# Altium schematic symbol library WL-OCPT.SchLib: 88 symbols (part 2 of 2)
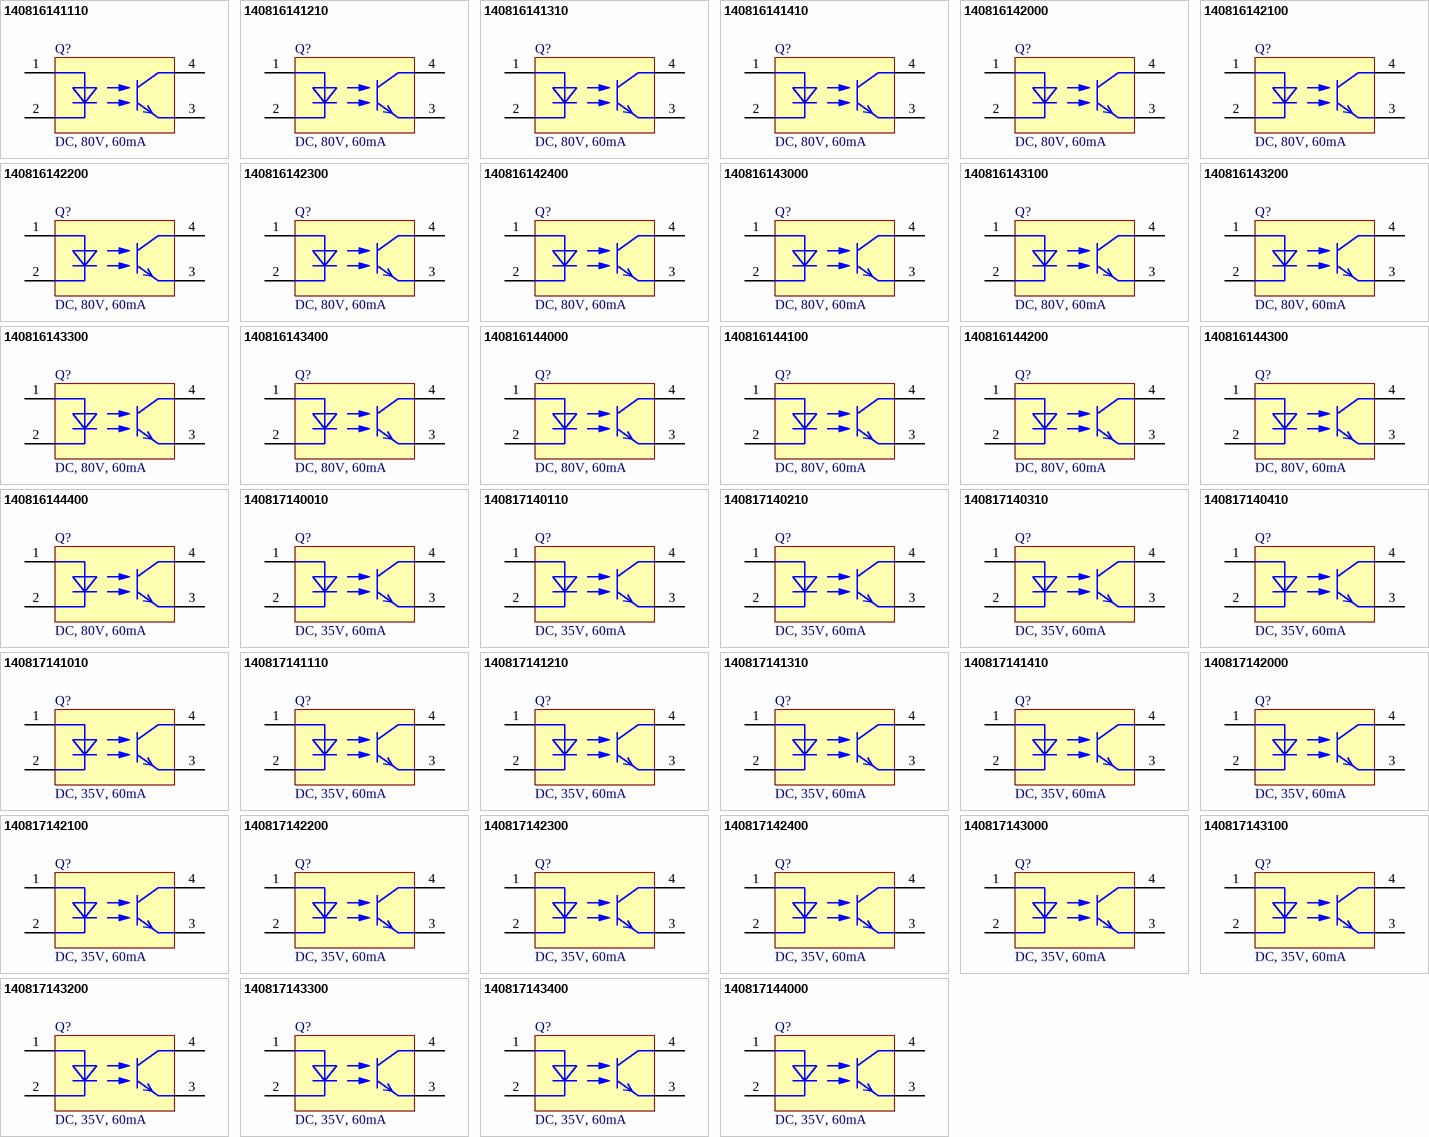
[diagram p3: symbols 140816141110 to 140817144000]

## 140816143300
designator Q?, comment DC, 80V, 60mA
WL-OCPT Optocoupler Phototransistor, DIP4_SL-Type, 1 Channel, DC, 80V, 60mA; Manufacturer Part Number: 140816143300; Manufacturer: Wurth Elektronik; Current Transfer Ratio Max: 400%; Current Transfer Ratio Min: 200%; Isolation Voltage: 5000Vrms; Number of Channels: 1; Category: Optocoupler Phototransistor; Match Code: WL-OCPT; ComponentLink1Description: Website Link; ComponentLink1URL: https://www.we-online.com/redexpert/article/140816143300?ad; ComponentLink2Description: Datasheet Link; ComponentLink2URL: https://www.we-online.com/redexpert/spec/140816143300?ad; Mount: Surface Mount; Min Operating Temperature: -55°C; Max Operating Temperature: 110°C; Packaging: Tape and Reel; Case/Size Code: DIP4_SL-Type; Length: 10.15mm; Width: 4.58mm; Height: 3.6mm; Collector Emitter Voltage: 80V; Forward Current: 60mA; Input: DC
footprint WL-OCPT_DIP4_SL-Type
pins: 1 Anode, 2 Cathode, 3 Emitter, 4 Collector

## 140816143400
designator Q?, comment DC, 80V, 60mA
WL-OCPT Optocoupler Phototransistor, DIP4_SL-Type, 1 Channel, DC, 80V, 60mA; Manufacturer Part Number: 140816143400; Manufacturer: Wurth Elektronik; Current Transfer Ratio Max: 600%; Current Transfer Ratio Min: 300%; Isolation Voltage: 5000Vrms; Number of Channels: 1; Category: Optocoupler Phototransistor; Match Code: WL-OCPT; ComponentLink1Description: Website Link; ComponentLink1URL: https://www.we-online.com/redexpert/article/140816143400?ad; ComponentLink2Description: Datasheet Link; ComponentLink2URL: https://www.we-online.com/redexpert/spec/140816143400?ad; Mount: Surface Mount; Min Operating Temperature: -55°C; Max Operating Temperature: 110°C; Packaging: Tape and Reel; Case/Size Code: DIP4_SL-Type; Length: 10.15mm; Width: 4.58mm; Height: 3.6mm; Collector Emitter Voltage: 80V; Forward Current: 60mA; Input: DC
footprint WL-OCPT_DIP4_SL-Type
pins: 1 Anode, 2 Cathode, 3 Emitter, 4 Collector

## 140816144000
designator Q?, comment DC, 80V, 60mA
WL-OCPT Optocoupler Phototransistor, DIP4_SLM-Type, 1 Channel, DC, 80V, 60mA; Manufacturer Part Number: 140816144000; Manufacturer: Wurth Elektronik; Current Transfer Ratio Max: 600%; Current Transfer Ratio Min: 50%; Isolation Voltage: 5000Vrms; Number of Channels: 1; Category: Optocoupler Phototransistor; Match Code: WL-OCPT; ComponentLink1Description: Website Link; ComponentLink1URL: https://www.we-online.com/redexpert/article/140816144000?ad; ComponentLink2Description: Datasheet Link; ComponentLink2URL: https://www.we-online.com/redexpert/spec/140816144000?ad; Mount: Surface Mount; Min Operating Temperature: -55°C; Max Operating Temperature: 110°C; Packaging: Tape and Reel; Case/Size Code: DIP4_SLM-Type; Length: 11.8mm; Width: 4.58mm; Height: 3.75mm; Collector Emitter Voltage: 80V; Forward Current: 60mA; Input: DC
footprint WL-OCPT_DIP4_SLM-Type
pins: 1 Anode, 2 Cathode, 3 Emitter, 4 Collector

## 140816144100
designator Q?, comment DC, 80V, 60mA
WL-OCPT Optocoupler Phototransistor, DIP4_SLM-Type, 1 Channel, DC, 80V, 60mA; Manufacturer Part Number: 140816144100; Manufacturer: Wurth Elektronik; Current Transfer Ratio Max: 160%; Current Transfer Ratio Min: 80%; Isolation Voltage: 5000Vrms; Number of Channels: 1; Category: Optocoupler Phototransistor; Match Code: WL-OCPT; ComponentLink1Description: Website Link; ComponentLink1URL: https://www.we-online.com/redexpert/article/140816144100?ad; ComponentLink2Description: Datasheet Link; ComponentLink2URL: https://www.we-online.com/redexpert/spec/140816144100?ad; Mount: Surface Mount; Min Operating Temperature: -55°C; Max Operating Temperature: 110°C; Packaging: Tape and Reel; Case/Size Code: DIP4_SLM-Type; Length: 11.8mm; Width: 4.58mm; Height: 3.75mm; Collector Emitter Voltage: 80V; Forward Current: 60mA; Input: DC
footprint WL-OCPT_DIP4_SLM-Type
pins: 1 Anode, 2 Cathode, 3 Emitter, 4 Collector

## 140816144200
designator Q?, comment DC, 80V, 60mA
WL-OCPT Optocoupler Phototransistor, DIP4_SLM-Type, 1 Channel, DC, 80V, 60mA; Manufacturer Part Number: 140816144200; Manufacturer: Wurth Elektronik; Current Transfer Ratio Max: 260%; Current Transfer Ratio Min: 130%; Isolation Voltage: 5000Vrms; Number of Channels: 1; Category: Optocoupler Phototransistor; Match Code: WL-OCPT; ComponentLink1Description: Website Link; ComponentLink1URL: https://www.we-online.com/redexpert/article/140816144200?ad; ComponentLink2Description: Datasheet Link; ComponentLink2URL: https://www.we-online.com/redexpert/spec/140816144200?ad; Mount: Surface Mount; Min Operating Temperature: -55°C; Max Operating Temperature: 110°C; Packaging: Tape and Reel; Case/Size Code: DIP4_SLM-Type; Length: 11.8mm; Width: 4.58mm; Height: 3.75mm; Collector Emitter Voltage: 80V; Forward Current: 60mA; Input: DC
footprint WL-OCPT_DIP4_SLM-Type
pins: 1 Anode, 2 Cathode, 3 Emitter, 4 Collector

## 140816144300
designator Q?, comment DC, 80V, 60mA
WL-OCPT Optocoupler Phototransistor, DIP4_SLM-Type, 1 Channel, DC, 80V, 60mA; Manufacturer Part Number: 140816144300; Manufacturer: Wurth Elektronik; Current Transfer Ratio Max: 400%; Current Transfer Ratio Min: 200%; Isolation Voltage: 5000Vrms; Number of Channels: 1; Category: Optocoupler Phototransistor; Match Code: WL-OCPT; ComponentLink1Description: Website Link; ComponentLink1URL: https://www.we-online.com/redexpert/article/140816144300?ad; ComponentLink2Description: Datasheet Link; ComponentLink2URL: https://www.we-online.com/redexpert/spec/140816144300?ad; Mount: Surface Mount; Min Operating Temperature: -55°C; Max Operating Temperature: 110°C; Packaging: Tape and Reel; Case/Size Code: DIP4_SLM-Type; Length: 11.8mm; Width: 4.58mm; Height: 3.75mm; Collector Emitter Voltage: 80V; Forward Current: 60mA; Input: DC
footprint WL-OCPT_DIP4_SLM-Type
pins: 1 Anode, 2 Cathode, 3 Emitter, 4 Collector

## 140816144400
designator Q?, comment DC, 80V, 60mA
WL-OCPT Optocoupler Phototransistor, DIP4_SLM-Type, 1 Channel, DC, 80V, 60mA; Manufacturer Part Number: 140816144400; Manufacturer: Wurth Elektronik; Current Transfer Ratio Max: 600%; Current Transfer Ratio Min: 300%; Isolation Voltage: 5000Vrms; Number of Channels: 1; Category: Optocoupler Phototransistor; Match Code: WL-OCPT; ComponentLink1Description: Website Link; ComponentLink1URL: https://www.we-online.com/redexpert/article/140816144400?ad; ComponentLink2Description: Datasheet Link; ComponentLink2URL: https://www.we-online.com/redexpert/spec/140816144400?ad; Mount: Surface Mount; Min Operating Temperature: -55°C; Max Operating Temperature: 110°C; Packaging: Tape and Reel; Case/Size Code: DIP4_SLM-Type; Length: 11.8mm; Width: 4.58mm; Height: 3.75mm; Collector Emitter Voltage: 80V; Forward Current: 60mA; Input: DC
footprint WL-OCPT_DIP4_SLM-Type
pins: 1 Anode, 2 Cathode, 3 Emitter, 4 Collector

## 140817140010
designator Q?, comment DC, 35V, 60mA
WL-OCPT Optocoupler Phototransistor, DIP4_Standard, 1 Channel, DC, 35V, 60mA; Manufacturer Part Number: 140817140010; Manufacturer: Wurth Elektronik; Current Transfer Ratio Max: 600%; Current Transfer Ratio Min: 50%; Isolation Voltage: 5000Vrms; Number of Channels: 1; Category: Optocoupler Phototransistor; Match Code: WL-OCPT; ComponentLink1Description: Website Link; ComponentLink1URL: https://www.we-online.com/redexpert/article/140817140010?ad; ComponentLink2Description: Datasheet Link; ComponentLink2URL: https://www.we-online.com/redexpert/spec/140817140010?ad; Mount: Through Hole; Min Operating Temperature: -55°C; Max Operating Temperature: 110°C; Packaging: Tube; Case/Size Code: DIP4_Standard; Length: 9.5mm; Width: 4.58mm; Height: 4.5mm; Collector Emitter Voltage: 35V; Forward Current: 60mA; Input: DC
footprint WL-OCPT_DIP4_Standard
pins: 1 Anode, 2 Cathode, 3 Emitter, 4 Collector

## 140817140110
designator Q?, comment DC, 35V, 60mA
WL-OCPT Optocoupler Phototransistor, DIP4_Standard, 1 Channel, DC, 35V, 60mA; Manufacturer Part Number: 140817140110; Manufacturer: Wurth Elektronik; Current Transfer Ratio Max: 160%; Current Transfer Ratio Min: 80%; Isolation Voltage: 5000Vrms; Number of Channels: 1; Category: Optocoupler Phototransistor; Match Code: WL-OCPT; ComponentLink1Description: Website Link; ComponentLink1URL: https://www.we-online.com/redexpert/article/140817140110?ad; ComponentLink2Description: Datasheet Link; ComponentLink2URL: https://www.we-online.com/redexpert/spec/140817140110?ad; Mount: Through Hole; Min Operating Temperature: -55°C; Max Operating Temperature: 110°C; Packaging: Tube; Case/Size Code: DIP4_Standard; Length: 9.5mm; Width: 4.58mm; Height: 4.5mm; Collector Emitter Voltage: 35V; Forward Current: 60mA; Input: DC
footprint WL-OCPT_DIP4_Standard
pins: 1 Anode, 2 Cathode, 3 Emitter, 4 Collector

## 140817140210
designator Q?, comment DC, 35V, 60mA
WL-OCPT Optocoupler Phototransistor, DIP4_Standard, 1 Channel, DC, 35V, 60mA; Manufacturer Part Number: 140817140210; Manufacturer: Wurth Elektronik; Current Transfer Ratio Max: 260%; Current Transfer Ratio Min: 130%; Isolation Voltage: 5000Vrms; Number of Channels: 1; Category: Optocoupler Phototransistor; Match Code: WL-OCPT; ComponentLink1Description: Website Link; ComponentLink1URL: https://www.we-online.com/redexpert/article/140817140210?ad; ComponentLink2Description: Datasheet Link; ComponentLink2URL: https://www.we-online.com/redexpert/spec/140817140210?ad; Mount: Through Hole; Min Operating Temperature: -55°C; Max Operating Temperature: 110°C; Packaging: Tube; Case/Size Code: DIP4_Standard; Length: 9.5mm; Width: 4.58mm; Height: 4.5mm; Collector Emitter Voltage: 35V; Forward Current: 60mA; Input: DC
footprint WL-OCPT_DIP4_Standard
pins: 1 Anode, 2 Cathode, 3 Emitter, 4 Collector

## 140817140310
designator Q?, comment DC, 35V, 60mA
WL-OCPT Optocoupler Phototransistor, DIP4_Standard, 1 Channel, DC, 35V, 60mA; Manufacturer Part Number: 140817140310; Manufacturer: Wurth Elektronik; Current Transfer Ratio Max: 400%; Current Transfer Ratio Min: 200%; Isolation Voltage: 5000Vrms; Number of Channels: 1; Category: Optocoupler Phototransistor; Match Code: WL-OCPT; ComponentLink1Description: Website Link; ComponentLink1URL: https://www.we-online.com/redexpert/article/140817140310?ad; ComponentLink2Description: Datasheet Link; ComponentLink2URL: https://www.we-online.com/redexpert/spec/140817140310?ad; Mount: Through Hole; Min Operating Temperature: -55°C; Max Operating Temperature: 110°C; Packaging: Tube; Case/Size Code: DIP4_Standard; Length: 9.5mm; Width: 4.58mm; Height: 4.5mm; Collector Emitter Voltage: 35V; Forward Current: 60mA; Input: DC
footprint WL-OCPT_DIP4_Standard
pins: 1 Anode, 2 Cathode, 3 Emitter, 4 Collector

## 140817140410
designator Q?, comment DC, 35V, 60mA
WL-OCPT Optocoupler Phototransistor, DIP4_Standard, 1 Channel, DC, 35V, 60mA; Manufacturer Part Number: 140817140410; Manufacturer: Wurth Elektronik; Current Transfer Ratio Max: 600%; Current Transfer Ratio Min: 300%; Isolation Voltage: 5000Vrms; Number of Channels: 1; Category: Optocoupler Phototransistor; Match Code: WL-OCPT; ComponentLink1Description: Website Link; ComponentLink1URL: https://www.we-online.com/redexpert/article/140817140410?ad; ComponentLink2Description: Datasheet Link; ComponentLink2URL: https://www.we-online.com/redexpert/spec/140817140410?ad; Mount: Through Hole; Min Operating Temperature: -55°C; Max Operating Temperature: 110°C; Packaging: Tube; Case/Size Code: DIP4_Standard; Length: 9.5mm; Width: 4.58mm; Height: 4.5mm; Collector Emitter Voltage: 35V; Forward Current: 60mA; Input: DC
footprint WL-OCPT_DIP4_Standard
pins: 1 Anode, 2 Cathode, 3 Emitter, 4 Collector

## 140817141010
designator Q?, comment DC, 35V, 60mA
WL-OCPT Optocoupler Phototransistor, DIP4_M-Type, 1 Channel, DC, 35V, 60mA; Manufacturer Part Number: 140817141010; Manufacturer: Wurth Elektronik; Current Transfer Ratio Max: 600%; Current Transfer Ratio Min: 50%; Isolation Voltage: 5000Vrms; Number of Channels: 1; Category: Optocoupler Phototransistor; Match Code: WL-OCPT; ComponentLink1Description: Website Link; ComponentLink1URL: https://www.we-online.com/redexpert/article/140817141010?ad; ComponentLink2Description: Datasheet Link; ComponentLink2URL: https://www.we-online.com/redexpert/spec/140817141010?ad; Mount: Through Hole; Min Operating Temperature: -55°C; Max Operating Temperature: 110°C; Packaging: Tube; Case/Size Code: DIP4_M-Type; Length: 10.16mm; Width: 4.58mm; Height: 4.58mm; Collector Emitter Voltage: 35V; Forward Current: 60mA; Input: DC
footprint WL-OCPT_DIP4_M-Type
pins: 1 Anode, 2 Cathode, 3 Emitter, 4 Collector

## 140817141110
designator Q?, comment DC, 35V, 60mA
WL-OCPT Optocoupler Phototransistor, DIP4_M-Type, 1 Channel, DC, 35V, 60mA; Manufacturer Part Number: 140817141110; Manufacturer: Wurth Elektronik; Current Transfer Ratio Max: 160%; Current Transfer Ratio Min: 80%; Isolation Voltage: 5000Vrms; Number of Channels: 1; Category: Optocoupler Phototransistor; Match Code: WL-OCPT; ComponentLink1Description: Website Link; ComponentLink1URL: https://www.we-online.com/redexpert/article/140817141110?ad; ComponentLink2Description: Datasheet Link; ComponentLink2URL: https://www.we-online.com/redexpert/spec/140817141110?ad; Mount: Through Hole; Min Operating Temperature: -55°C; Max Operating Temperature: 110°C; Packaging: Tube; Case/Size Code: DIP4_M-Type; Length: 10.16mm; Width: 4.58mm; Height: 4.58mm; Collector Emitter Voltage: 35V; Forward Current: 60mA; Input: DC
footprint WL-OCPT_DIP4_M-Type
pins: 1 Anode, 2 Cathode, 3 Emitter, 4 Collector

## 140817141210
designator Q?, comment DC, 35V, 60mA
WL-OCPT Optocoupler Phototransistor, DIP4_M-Type, 1 Channel, DC, 35V, 60mA; Manufacturer Part Number: 140817141210; Manufacturer: Wurth Elektronik; Current Transfer Ratio Max: 260%; Current Transfer Ratio Min: 130%; Isolation Voltage: 5000Vrms; Number of Channels: 1; Category: Optocoupler Phototransistor; Match Code: WL-OCPT; ComponentLink1Description: Website Link; ComponentLink1URL: https://www.we-online.com/redexpert/article/140817141210?ad; ComponentLink2Description: Datasheet Link; ComponentLink2URL: https://www.we-online.com/redexpert/spec/140817141210?ad; Mount: Through Hole; Min Operating Temperature: -55°C; Max Operating Temperature: 110°C; Packaging: Tube; Case/Size Code: DIP4_M-Type; Length: 10.16mm; Width: 4.58mm; Height: 4.58mm; Collector Emitter Voltage: 35V; Forward Current: 60mA; Input: DC
footprint WL-OCPT_DIP4_M-Type
pins: 1 Anode, 2 Cathode, 3 Emitter, 4 Collector

## 140817141310
designator Q?, comment DC, 35V, 60mA
WL-OCPT Optocoupler Phototransistor, DIP4_M-Type, 1 Channel, DC, 35V, 60mA; Manufacturer Part Number: 140817141310; Manufacturer: Wurth Elektronik; Current Transfer Ratio Max: 400%; Current Transfer Ratio Min: 200%; Isolation Voltage: 5000Vrms; Number of Channels: 1; Category: Optocoupler Phototransistor; Match Code: WL-OCPT; ComponentLink1Description: Website Link; ComponentLink1URL: https://www.we-online.com/redexpert/article/140817141310?ad; ComponentLink2Description: Datasheet Link; ComponentLink2URL: https://www.we-online.com/redexpert/spec/140817141310?ad; Mount: Through Hole; Min Operating Temperature: -55°C; Max Operating Temperature: 110°C; Packaging: Tube; Case/Size Code: DIP4_M-Type; Length: 10.16mm; Width: 4.58mm; Height: 4.58mm; Collector Emitter Voltage: 35V; Forward Current: 60mA; Input: DC
footprint WL-OCPT_DIP4_M-Type
pins: 1 Anode, 2 Cathode, 3 Emitter, 4 Collector

## 140817141410
designator Q?, comment DC, 35V, 60mA
WL-OCPT Optocoupler Phototransistor, DIP4_M-Type, 1 Channel, DC, 35V, 60mA; Manufacturer Part Number: 140817141410; Manufacturer: Wurth Elektronik; Current Transfer Ratio Max: 600%; Current Transfer Ratio Min: 300%; Isolation Voltage: 5000Vrms; Number of Channels: 1; Category: Optocoupler Phototransistor; Match Code: WL-OCPT; ComponentLink1Description: Website Link; ComponentLink1URL: https://www.we-online.com/redexpert/article/140817141410?ad; ComponentLink2Description: Datasheet Link; ComponentLink2URL: https://www.we-online.com/redexpert/spec/140817141410?ad; Mount: Through Hole; Min Operating Temperature: -55°C; Max Operating Temperature: 110°C; Packaging: Tube; Case/Size Code: DIP4_M-Type; Length: 10.16mm; Width: 4.58mm; Height: 4.58mm; Collector Emitter Voltage: 35V; Forward Current: 60mA; Input: DC
footprint WL-OCPT_DIP4_M-Type
pins: 1 Anode, 2 Cathode, 3 Emitter, 4 Collector

## 140817142000
designator Q?, comment DC, 35V, 60mA
WL-OCPT Optocoupler Phototransistor, DIP4_S-Type, 1 Channel, DC, 35V, 60mA; Manufacturer Part Number: 140817142000; Manufacturer: Wurth Elektronik; Current Transfer Ratio Max: 600%; Current Transfer Ratio Min: 50%; Isolation Voltage: 5000Vrms; Number of Channels: 1; Category: Optocoupler Phototransistor; Match Code: WL-OCPT; ComponentLink1Description: Website Link; ComponentLink1URL: https://www.we-online.com/redexpert/article/140817142000?ad; ComponentLink2Description: Datasheet Link; ComponentLink2URL: https://www.we-online.com/redexpert/spec/140817142000?ad; Mount: Surface Mount; Min Operating Temperature: -55°C; Max Operating Temperature: 110°C; Packaging: Tape and Reel; Case/Size Code: DIP4_S-Type; Length: 10.15mm; Width: 4.58mm; Height: 4.3mm; Collector Emitter Voltage: 35V; Forward Current: 60mA; Input: DC
footprint WL-OCPT_DIP4_S-Type
pins: 1 Anode, 2 Cathode, 3 Emitter, 4 Collector

## 140817142100
designator Q?, comment DC, 35V, 60mA
WL-OCPT Optocoupler Phototransistor, DIP4_S-Type, 1 Channel, DC, 35V, 60mA; Manufacturer Part Number: 140817142100; Manufacturer: Wurth Elektronik; Current Transfer Ratio Max: 160%; Current Transfer Ratio Min: 80%; Isolation Voltage: 5000Vrms; Number of Channels: 1; Category: Optocoupler Phototransistor; Match Code: WL-OCPT; ComponentLink1Description: Website Link; ComponentLink1URL: https://www.we-online.com/redexpert/article/140817142100?ad; ComponentLink2Description: Datasheet Link; ComponentLink2URL: https://www.we-online.com/redexpert/spec/140817142100?ad; Mount: Surface Mount; Min Operating Temperature: -55°C; Max Operating Temperature: 110°C; Packaging: Tape and Reel; Case/Size Code: DIP4_S-Type; Length: 10.15mm; Width: 4.58mm; Height: 4.3mm; Collector Emitter Voltage: 35V; Forward Current: 60mA; Input: DC
footprint WL-OCPT_DIP4_S-Type
pins: 1 Anode, 2 Cathode, 3 Emitter, 4 Collector

## 140817142200
designator Q?, comment DC, 35V, 60mA
WL-OCPT Optocoupler Phototransistor, DIP4_S-Type, 1 Channel, DC, 35V, 60mA; Manufacturer Part Number: 140817142200; Manufacturer: Wurth Elektronik; Current Transfer Ratio Max: 260%; Current Transfer Ratio Min: 130%; Isolation Voltage: 5000Vrms; Number of Channels: 1; Category: Optocoupler Phototransistor; Match Code: WL-OCPT; ComponentLink1Description: Website Link; ComponentLink1URL: https://www.we-online.com/redexpert/article/140817142200?ad; ComponentLink2Description: Datasheet Link; ComponentLink2URL: https://www.we-online.com/redexpert/spec/140817142200?ad; Mount: Surface Mount; Min Operating Temperature: -55°C; Max Operating Temperature: 110°C; Packaging: Tape and Reel; Case/Size Code: DIP4_S-Type; Length: 10.15mm; Width: 4.58mm; Height: 4.3mm; Collector Emitter Voltage: 35V; Forward Current: 60mA; Input: DC
footprint WL-OCPT_DIP4_S-Type
pins: 1 Anode, 2 Cathode, 3 Emitter, 4 Collector

## 140817142300
designator Q?, comment DC, 35V, 60mA
WL-OCPT Optocoupler Phototransistor, DIP4_S-Type, 1 Channel, DC, 35V, 60mA; Manufacturer Part Number: 140817142300; Manufacturer: Wurth Elektronik; Current Transfer Ratio Max: 400%; Current Transfer Ratio Min: 200%; Isolation Voltage: 5000Vrms; Number of Channels: 1; Category: Optocoupler Phototransistor; Match Code: WL-OCPT; ComponentLink1Description: Website Link; ComponentLink1URL: https://www.we-online.com/redexpert/article/140817142300?ad; ComponentLink2Description: Datasheet Link; ComponentLink2URL: https://www.we-online.com/redexpert/spec/140817142300?ad; Mount: Surface Mount; Min Operating Temperature: -55°C; Max Operating Temperature: 110°C; Packaging: Tape and Reel; Case/Size Code: DIP4_S-Type; Length: 10.15mm; Width: 4.58mm; Height: 4.3mm; Collector Emitter Voltage: 35V; Forward Current: 60mA; Input: DC
footprint WL-OCPT_DIP4_S-Type
pins: 1 Anode, 2 Cathode, 3 Emitter, 4 Collector

## 140817142400
designator Q?, comment DC, 35V, 60mA
WL-OCPT Optocoupler Phototransistor, DIP4_S-Type, 1 Channel, DC, 35V, 60mA; Manufacturer Part Number: 140817142400; Manufacturer: Wurth Elektronik; Current Transfer Ratio Max: 600%; Current Transfer Ratio Min: 300%; Isolation Voltage: 5000Vrms; Number of Channels: 1; Category: Optocoupler Phototransistor; Match Code: WL-OCPT; ComponentLink1Description: Website Link; ComponentLink1URL: https://www.we-online.com/redexpert/article/140817142400?ad; ComponentLink2Description: Datasheet Link; ComponentLink2URL: https://www.we-online.com/redexpert/spec/140817142400?ad; Mount: Surface Mount; Min Operating Temperature: -55°C; Max Operating Temperature: 110°C; Packaging: Tape and Reel; Case/Size Code: DIP4_S-Type; Length: 10.15mm; Width: 4.58mm; Height: 4.3mm; Collector Emitter Voltage: 35V; Forward Current: 60mA; Input: DC
footprint WL-OCPT_DIP4_S-Type
pins: 1 Anode, 2 Cathode, 3 Emitter, 4 Collector

## 140817143000
designator Q?, comment DC, 35V, 60mA
WL-OCPT Optocoupler Phototransistor, DIP4_SL-Type, 1 Channel, DC, 35V, 60mA; Manufacturer Part Number: 140817143000; Manufacturer: Wurth Elektronik; Current Transfer Ratio Max: 600%; Current Transfer Ratio Min: 50%; Isolation Voltage: 5000Vrms; Number of Channels: 1; Category: Optocoupler Phototransistor; Match Code: WL-OCPT; ComponentLink1Description: Website Link; ComponentLink1URL: https://www.we-online.com/redexpert/article/140817143000?ad; ComponentLink2Description: Datasheet Link; ComponentLink2URL: https://www.we-online.com/redexpert/spec/140817143000?ad; Mount: Surface Mount; Min Operating Temperature: -55°C; Max Operating Temperature: 110°C; Packaging: Tape and Reel; Case/Size Code: DIP4_SL-Type; Length: 10.15mm; Width: 4.58mm; Height: 3.6mm; Collector Emitter Voltage: 35V; Forward Current: 60mA; Input: DC
footprint WL-OCPT_DIP4_SL-Type
pins: 1 Anode, 2 Cathode, 3 Emitter, 4 Collector

## 140817143100
designator Q?, comment DC, 35V, 60mA
WL-OCPT Optocoupler Phototransistor, DIP4_SL-Type, 1 Channel, DC, 35V, 60mA; Manufacturer Part Number: 140817143100; Manufacturer: Wurth Elektronik; Current Transfer Ratio Max: 160%; Current Transfer Ratio Min: 80%; Isolation Voltage: 5000Vrms; Number of Channels: 1; Category: Optocoupler Phototransistor; Match Code: WL-OCPT; ComponentLink1Description: Website Link; ComponentLink1URL: https://www.we-online.com/redexpert/article/140817143100?ad; ComponentLink2Description: Datasheet Link; ComponentLink2URL: https://www.we-online.com/redexpert/spec/140817143100?ad; Mount: Surface Mount; Min Operating Temperature: -55°C; Max Operating Temperature: 110°C; Packaging: Tape and Reel; Case/Size Code: DIP4_SL-Type; Length: 10.15mm; Width: 4.58mm; Height: 3.6mm; Collector Emitter Voltage: 35V; Forward Current: 60mA; Input: DC
footprint WL-OCPT_DIP4_SL-Type
pins: 1 Anode, 2 Cathode, 3 Emitter, 4 Collector

## 140817143200
designator Q?, comment DC, 35V, 60mA
WL-OCPT Optocoupler Phototransistor, DIP4_SL-Type, 1 Channel, DC, 35V, 60mA; Manufacturer Part Number: 140817143200; Manufacturer: Wurth Elektronik; Current Transfer Ratio Max: 260%; Current Transfer Ratio Min: 130%; Isolation Voltage: 5000Vrms; Number of Channels: 1; Category: Optocoupler Phototransistor; Match Code: WL-OCPT; ComponentLink1Description: Website Link; ComponentLink1URL: https://www.we-online.com/redexpert/article/140817143200?ad; ComponentLink2Description: Datasheet Link; ComponentLink2URL: https://www.we-online.com/redexpert/spec/140817143200?ad; Mount: Surface Mount; Min Operating Temperature: -55°C; Max Operating Temperature: 110°C; Packaging: Tape and Reel; Case/Size Code: DIP4_SL-Type; Length: 10.15mm; Width: 4.58mm; Height: 3.6mm; Collector Emitter Voltage: 35V; Forward Current: 60mA; Input: DC
footprint WL-OCPT_DIP4_SL-Type
pins: 1 Anode, 2 Cathode, 3 Emitter, 4 Collector

## 140817143300
designator Q?, comment DC, 35V, 60mA
WL-OCPT Optocoupler Phototransistor, DIP4_SL-Type, 1 Channel, DC, 35V, 60mA; Manufacturer Part Number: 140817143300; Manufacturer: Wurth Elektronik; Current Transfer Ratio Max: 400%; Current Transfer Ratio Min: 200%; Isolation Voltage: 5000Vrms; Number of Channels: 1; Category: Optocoupler Phototransistor; Match Code: WL-OCPT; ComponentLink1Description: Website Link; ComponentLink1URL: https://www.we-online.com/redexpert/article/140817143300?ad; ComponentLink2Description: Datasheet Link; ComponentLink2URL: https://www.we-online.com/redexpert/spec/140817143300?ad; Mount: Surface Mount; Min Operating Temperature: -55°C; Max Operating Temperature: 110°C; Packaging: Tape and Reel; Case/Size Code: DIP4_SL-Type; Length: 10.15mm; Width: 4.58mm; Height: 3.6mm; Collector Emitter Voltage: 35V; Forward Current: 60mA; Input: DC
footprint WL-OCPT_DIP4_SL-Type
pins: 1 Anode, 2 Cathode, 3 Emitter, 4 Collector

## 140817143400
designator Q?, comment DC, 35V, 60mA
WL-OCPT Optocoupler Phototransistor, DIP4_SL-Type, 1 Channel, DC, 35V, 60mA; Manufacturer Part Number: 140817143400; Manufacturer: Wurth Elektronik; Current Transfer Ratio Max: 600%; Current Transfer Ratio Min: 300%; Isolation Voltage: 5000Vrms; Number of Channels: 1; Category: Optocoupler Phototransistor; Match Code: WL-OCPT; ComponentLink1Description: Website Link; ComponentLink1URL: https://www.we-online.com/redexpert/article/140817143400?ad; ComponentLink2Description: Datasheet Link; ComponentLink2URL: https://www.we-online.com/redexpert/spec/140817143400?ad; Mount: Surface Mount; Min Operating Temperature: -55°C; Max Operating Temperature: 110°C; Packaging: Tape and Reel; Case/Size Code: DIP4_SL-Type; Length: 10.15mm; Width: 4.58mm; Height: 3.6mm; Collector Emitter Voltage: 35V; Forward Current: 60mA; Input: DC
footprint WL-OCPT_DIP4_SL-Type
pins: 1 Anode, 2 Cathode, 3 Emitter, 4 Collector

## 140817144000
designator Q?, comment DC, 35V, 60mA
WL-OCPT Optocoupler Phototransistor, DIP4_SLM-Type, 1 Channel, DC, 35V, 60mA; Manufacturer Part Number: 140817144000; Manufacturer: Wurth Elektronik; Current Transfer Ratio Max: 600%; Current Transfer Ratio Min: 50%; Isolation Voltage: 5000Vrms; Number of Channels: 1; Category: Optocoupler Phototransistor; Match Code: WL-OCPT; ComponentLink1Description: Website Link; ComponentLink1URL: https://www.we-online.com/redexpert/article/140817144000?ad; ComponentLink2Description: Datasheet Link; ComponentLink2URL: https://www.we-online.com/redexpert/spec/140817144000?ad; Mount: Surface Mount; Min Operating Temperature: -55°C; Max Operating Temperature: 110°C; Packaging: Tape and Reel; Case/Size Code: DIP4_SLM-Type; Length: 11.8mm; Width: 4.58mm; Height: 3.75mm; Collector Emitter Voltage: 35V; Forward Current: 60mA; Input: DC
footprint WL-OCPT_DIP4_SLM-Type
pins: 1 Anode, 2 Cathode, 3 Emitter, 4 Collector

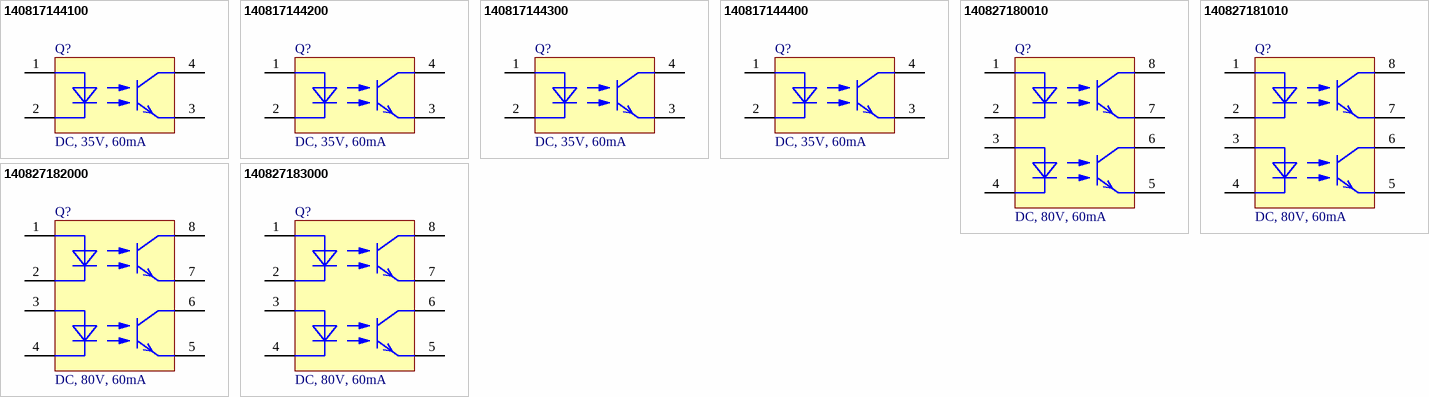
[diagram p2: symbols 140817144100 to 140827183000]

## 140817144100
designator Q?, comment DC, 35V, 60mA
WL-OCPT Optocoupler Phototransistor, DIP4_SLM-Type, 1 Channel, DC, 35V, 60mA; Manufacturer Part Number: 140817144100; Manufacturer: Wurth Elektronik; Current Transfer Ratio Max: 160%; Current Transfer Ratio Min: 80%; Isolation Voltage: 5000Vrms; Number of Channels: 1; Category: Optocoupler Phototransistor; Match Code: WL-OCPT; ComponentLink1Description: Website Link; ComponentLink1URL: https://www.we-online.com/redexpert/article/140817144100?ad; ComponentLink2Description: Datasheet Link; ComponentLink2URL: https://www.we-online.com/redexpert/spec/140817144100?ad; Mount: Surface Mount; Min Operating Temperature: -55°C; Max Operating Temperature: 110°C; Packaging: Tape and Reel; Case/Size Code: DIP4_SLM-Type; Length: 11.8mm; Width: 4.58mm; Height: 3.75mm; Collector Emitter Voltage: 35V; Forward Current: 60mA; Input: DC
footprint WL-OCPT_DIP4_SLM-Type
pins: 1 Anode, 2 Cathode, 3 Emitter, 4 Collector

## 140817144200
designator Q?, comment DC, 35V, 60mA
WL-OCPT Optocoupler Phototransistor, DIP4_SLM-Type, 1 Channel, DC, 35V, 60mA; Manufacturer Part Number: 140817144200; Manufacturer: Wurth Elektronik; Current Transfer Ratio Max: 260%; Current Transfer Ratio Min: 130%; Isolation Voltage: 5000Vrms; Number of Channels: 1; Category: Optocoupler Phototransistor; Match Code: WL-OCPT; ComponentLink1Description: Website Link; ComponentLink1URL: https://www.we-online.com/redexpert/article/140817144200?ad; ComponentLink2Description: Datasheet Link; ComponentLink2URL: https://www.we-online.com/redexpert/spec/140817144200?ad; Mount: Surface Mount; Min Operating Temperature: -55°C; Max Operating Temperature: 110°C; Packaging: Tape and Reel; Case/Size Code: DIP4_SLM-Type; Length: 11.8mm; Width: 4.58mm; Height: 3.75mm; Collector Emitter Voltage: 35V; Forward Current: 60mA; Input: DC
footprint WL-OCPT_DIP4_SLM-Type
pins: 1 Anode, 2 Cathode, 3 Emitter, 4 Collector

## 140817144300
designator Q?, comment DC, 35V, 60mA
WL-OCPT Optocoupler Phototransistor, DIP4_SLM-Type, 1 Channel, DC, 35V, 60mA; Manufacturer Part Number: 140817144300; Manufacturer: Wurth Elektronik; Current Transfer Ratio Max: 400%; Current Transfer Ratio Min: 200%; Isolation Voltage: 5000Vrms; Number of Channels: 1; Category: Optocoupler Phototransistor; Match Code: WL-OCPT; ComponentLink1Description: Website Link; ComponentLink1URL: https://www.we-online.com/redexpert/article/140817144300?ad; ComponentLink2Description: Datasheet Link; ComponentLink2URL: https://www.we-online.com/redexpert/spec/140817144300?ad; Mount: Surface Mount; Min Operating Temperature: -55°C; Max Operating Temperature: 110°C; Packaging: Tape and Reel; Case/Size Code: DIP4_SLM-Type; Length: 11.8mm; Width: 4.58mm; Height: 3.75mm; Collector Emitter Voltage: 35V; Forward Current: 60mA; Input: DC
footprint WL-OCPT_DIP4_SLM-Type
pins: 1 Anode, 2 Cathode, 3 Emitter, 4 Collector

## 140817144400
designator Q?, comment DC, 35V, 60mA
WL-OCPT Optocoupler Phototransistor, DIP4_SLM-Type, 1 Channel, DC, 35V, 60mA; Manufacturer Part Number: 140817144400; Manufacturer: Wurth Elektronik; Current Transfer Ratio Max: 600%; Current Transfer Ratio Min: 300%; Isolation Voltage: 5000Vrms; Number of Channels: 1; Category: Optocoupler Phototransistor; Match Code: WL-OCPT; ComponentLink1Description: Website Link; ComponentLink1URL: https://www.we-online.com/redexpert/article/140817144400?ad; ComponentLink2Description: Datasheet Link; ComponentLink2URL: https://www.we-online.com/redexpert/spec/140817144400?ad; Mount: Surface Mount; Min Operating Temperature: -55°C; Max Operating Temperature: 110°C; Packaging: Tape and Reel; Case/Size Code: DIP4_SLM-Type; Length: 11.8mm; Width: 4.58mm; Height: 3.75mm; Collector Emitter Voltage: 35V; Forward Current: 60mA; Input: DC
footprint WL-OCPT_DIP4_SLM-Type
pins: 1 Anode, 2 Cathode, 3 Emitter, 4 Collector

## 140827180010
designator Q?, comment DC, 80V, 60mA
WL-OCPT Optocoupler Phototransistor, DIP8_Standard, 2 Channel, DC, 80V, 60mA; Manufacturer Part Number: 140827180010; Manufacturer: Wurth Elektronik; Current Transfer Ratio Max: 400%; Current Transfer Ratio Min: 130%; Isolation Voltage: 5000Vrms; Number of Channels: 2; Category: Optocoupler Phototransistor; Match Code: WL-OCPT; ComponentLink1Description: Website Link; ComponentLink1URL: https://www.we-online.com/redexpert/article/140827180010?ad; ComponentLink2Description: Datasheet Link; ComponentLink2URL: https://www.we-online.com/redexpert/spec/140827180010?ad; Mount: Through Hole; Min Operating Temperature: -55°C; Max Operating Temperature: 110°C; Packaging: Tube; Case/Size Code: DIP8_Standard; Length: 9.76mm; Width: 9.5mm; Height: 4.5mm; Collector Emitter Voltage: 80V; Forward Current: 60mA; Input: DC
footprint WL-OCPT_DIP8_Standard
pins: 1 Anode, 2 Cathode, 3 Anode, 4 Cathode, 5 Emitter, 6 Collector, 7 Emitter, 8 Collector

## 140827181010
designator Q?, comment DC, 80V, 60mA
WL-OCPT Optocoupler Phototransistor, DIP8_M-Type, 2 Channel, DC, 80V, 60mA; Manufacturer Part Number: 140827181010; Manufacturer: Wurth Elektronik; Current Transfer Ratio Max: 400%; Current Transfer Ratio Min: 130%; Isolation Voltage: 5000Vrms; Number of Channels: 2; Category: Optocoupler Phototransistor; Match Code: WL-OCPT; ComponentLink1Description: Website Link; ComponentLink1URL: https://www.we-online.com/redexpert/article/140827181010?ad; ComponentLink2Description: Datasheet Link; ComponentLink2URL: https://www.we-online.com/redexpert/spec/140827181010?ad; Mount: Through Hole; Min Operating Temperature: -55°C; Max Operating Temperature: 110°C; Packaging: Tube; Case/Size Code: DIP8_M-Type; Length: 9.76mm; Width: 10.16mm; Height: 4.58mm; Collector Emitter Voltage: 80V; Forward Current: 60mA; Input: DC
footprint WL-OCPT_DIP8_M-Type
pins: 1 Anode, 2 Cathode, 3 Anode, 4 Cathode, 5 Emitter, 6 Collector, 7 Emitter, 8 Collector

## 140827182000
designator Q?, comment DC, 80V, 60mA
WL-OCPT Optocoupler Phototransistor, DIP8_S-Type, 2 Channel, DC, 80V, 60mA; Manufacturer Part Number: 140827182000; Manufacturer: Wurth Elektronik; Current Transfer Ratio Max: 400%; Current Transfer Ratio Min: 130%; Isolation Voltage: 5000Vrms; Number of Channels: 2; Category: Optocoupler Phototransistor; Match Code: WL-OCPT; ComponentLink1Description: Website Link; ComponentLink1URL: https://www.we-online.com/redexpert/article/140827182000?ad; ComponentLink2Description: Datasheet Link; ComponentLink2URL: https://www.we-online.com/redexpert/spec/140827182000?ad; Mount: Surface Mount; Min Operating Temperature: -55°C; Max Operating Temperature: 110°C; Packaging: Tape and Reel; Case/Size Code: DIP8_S-Type; Length: 9.76mm; Width: 10.15mm; Height: 4.3mm; Collector Emitter Voltage: 80V; Forward Current: 60mA; Input: DC
footprint WL-OCPT_DIP8_S-Type
pins: 1 Anode, 2 Cathode, 3 Anode, 4 Cathode, 5 Emitter, 6 Collector, 7 Emitter, 8 Collector

## 140827183000
designator Q?, comment DC, 80V, 60mA
WL-OCPT Optocoupler Phototransistor, DIP8_SL-Type, 2 Channel, DC, 80V, 60mA; Manufacturer Part Number: 140827183000; Manufacturer: Wurth Elektronik; Current Transfer Ratio Max: 400%; Current Transfer Ratio Min: 130%; Isolation Voltage: 5000Vrms; Number of Channels: 2; Category: Optocoupler Phototransistor; Match Code: WL-OCPT; ComponentLink1Description: Website Link; ComponentLink1URL: https://www.we-online.com/redexpert/article/140827183000?ad; ComponentLink2Description: Datasheet Link; ComponentLink2URL: https://www.we-online.com/redexpert/spec/140827183000?ad; Mount: Surface Mount; Min Operating Temperature: -55°C; Max Operating Temperature: 110°C; Packaging: Tape and Reel; Case/Size Code: DIP8_SL-Type; Length: 9.76mm; Width: 10.15mm; Height: 3.6mm; Collector Emitter Voltage: 80V; Forward Current: 60mA; Input: DC
footprint WL-OCPT_DIP8_SL-Type
pins: 1 Anode, 2 Cathode, 3 Anode, 4 Cathode, 5 Emitter, 6 Collector, 7 Emitter, 8 Collector